# EAGLE library part ESP-04 (library custom)
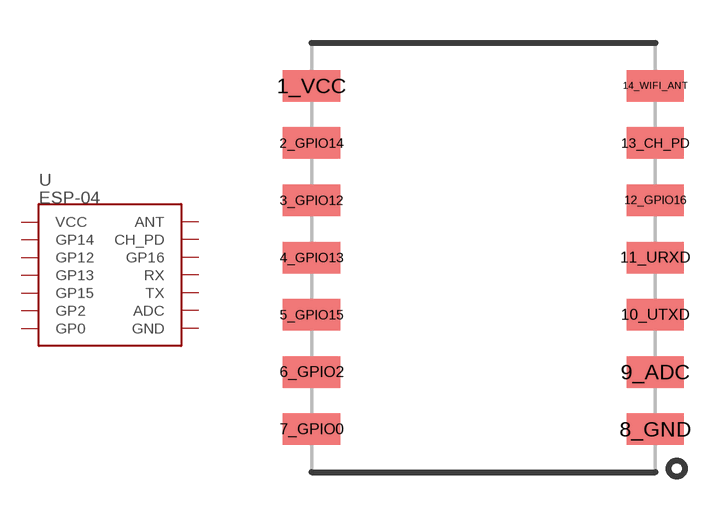
[diagram p111: symbol with the pads of ESP-04; footprint ESP-04]

Designator prefix U

## ESP-04  [ESP-04]
1_VCC  VCC
2_GPIO14  GP14
3_GPIO12  GP12
4_GPIO13  GP13
5_GPIO15  GP15
6_GPIO2  GP2
7_GPIO0  GP0
8_GND  GND
9_ADC  ADC
10_UTXD  TX
11_URXD  RX
12_GPIO16  GP16
13_CH_PD  CH_PD
14_WIFI_ANT  ANT

## Footprint ESP-04 (pad centres in mm)
smd 2 x 1.1: 1_VCC -6,6; 2_GPIO14 -6,4; 3_GPIO12 -6,2; 4_GPIO13 -6,0; 5_GPIO15 -6,-2; 6_GPIO2 -6,-4; 7_GPIO0 -6,-6; 8_GND 6,-6; 9_ADC 6,-4; 10_UTXD 6,-2; 11_URXD 6,0; 12_GPIO16 6,2; 13_CH_PD 6,4; 14_WIFI_ANT 6,6